# Altium schematic symbol library Schlib1.SchLib: 2 symbols
Pins are listed as number, name and electrical type; pins without a type are passive.

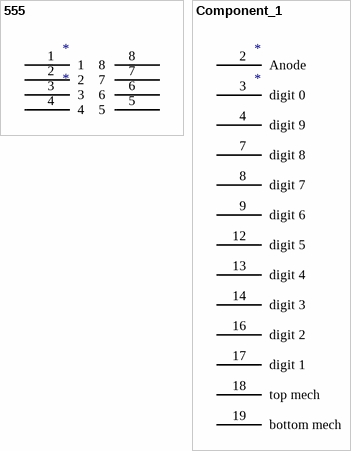
[diagram p0: symbols 555 to Component_1]

## 555
designator *
footprint 555
pins: 1, 2, 3, 4, 5, 6, 7, 8

## Component_1
designator *
pins: 2 Anode, 3 digit 0, 4 digit 9, 7 digit 8, 8 digit 7, 9 digit 6, 12 digit 5, 13 digit 4, 14 digit 3, 16 digit 2, 17 digit 1, 18 top mech, 19 bottom mech